# EAGLE library part STM32F042G4 (library pimoroni-ics)
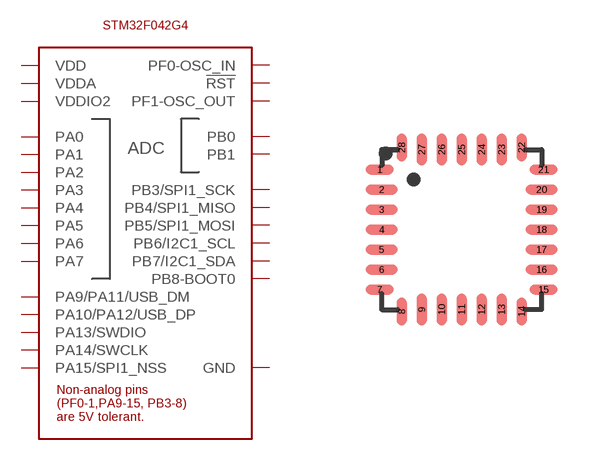
[diagram p88: symbol with the pads of UQFN-28-4X4-0.5MM; footprint UQFN-28-4X4-0.5MM]

Designator prefix U

## STM32F042G4QFN28  [UQFN-28-4X4-0.5MM]
1  PB8-BOOT0
2  PF0-OSC_IN
3  PF1-OSC_OUT
4  !RST
5  VDDA
6  PA0
7  PA1
8  PA2
9  PA3
10  PA4
11  PA5
12  PA6
13  PA7
14  PB0
15  PB1
16  GND
17  VDD
18  VDDIO2
19  PA9/PA11/USB_DM
20  PA10/PA12/USB_DP
21  PA13/SWDIO
22  PA14/SWCLK
23  PA15/SPI1_NSS
24  PB3/SPI1_SCK
25  PB4/SPI1_MISO
26  PB5/SPI1_MOSI
27  PB6/I2C1_SCL
28  PB7/I2C1_SDA

## Footprint UQFN-28-4X4-0.5MM (pad centres in mm)
smd 0.7 x 0.25: 1 -2.05,1.5; 7 -2.05,-1.5; 15 2.05,-1.5; 21 2.05,1.5
smd 0.8 x 0.25: 2 -2,1; 3 -2,0.5; 4 -2,0; 5 -2,-0.5; 6 -2,-1; 16 2,-1; 17 2,-0.5; 18 2,0; 19 2,0.5; 20 2,1
smd 0.25 x 0.7: 8 -1.5,-2.05; 14 1.5,-2.05; 22 1.5,2.05; 28 -1.5,2.05
smd 0.25 x 0.8: 9 -1,-2; 10 -0.5,-2; 11 0,-2; 12 0.5,-2; 13 1,-2; 23 1,2; 24 0.5,2; 25 0,2; 26 -0.5,2; 27 -1,2